# Altium schematic symbol library Cyclomotion.SCHLIB: 12 symbols
Pins are listed as number, name and electrical type; pins without a type are passive.

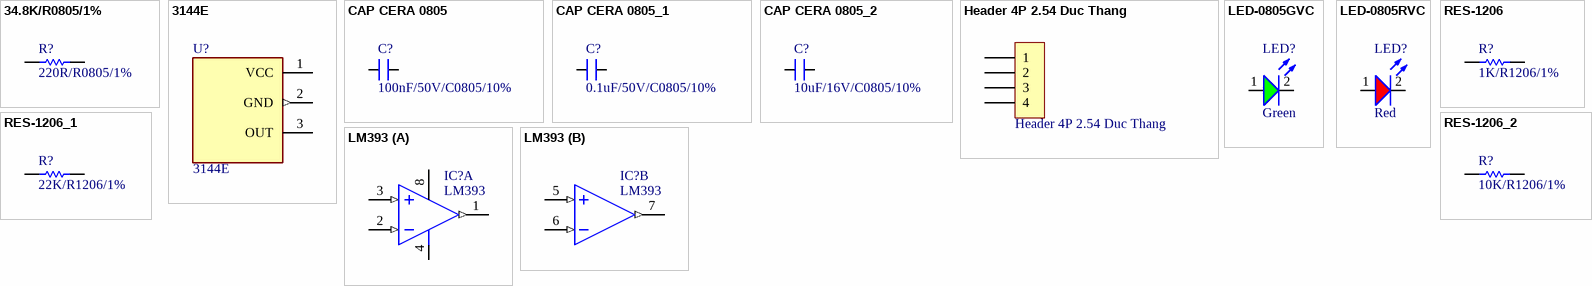
[diagram p0: symbols 34.8K/R0805/1% to RES-1206_2]

## 34.8K/R0805/1%
designator R?, comment 220R/R0805/1%
Thick Film Resistors - SMD 34.8K OHM 1% 0805; Manufacturer: Yageo; Manufacturer Part Number: RC0603FR-0734K8L; Power Rating: 100mW; Resistance: 34.8kR; Voltage Rating: 50V; Temperature Coefficient: 100ppm/°C; Supplier 1: Digi-Key; Stock 1: 82861; Pricing 1: 1=0.1, 10=0.026, 100=0.0107, 1000=0.0048, 2500=0.0042 (USD); Case/Package: 0603; Case Code (Imperial): 0603; Case Code (Metric): 1608; Min Operating Temperature: -55°C; Max Operating Temperature: 155°C; Tolerance: 1%; Packaging: Tape and Reel; Termination: SMD/SMT; Composition: Thick Film; Military Standard: Not; Voltage Rating (DC): 50V; Length: 1.6mm; Height: 0.45mm; Width: 0.8mm; Depth: 0.8mm; Lead Free: Lead Free; Supplier Part Number 1: 311-34.8KHRCT-ND
footprint Res 0805 SMD (Reflow Soldering)
pins: 1, 2

## 3144E
designator U?
Digital hall sensor switch Open Collector Hall Effect; MF: Honeywell Sensing; MP: SS541AT; SnapEDA_Link: https://www.snapeda.com/parts/SS541AT/Honeywell+Sensing+and+Control/view-part/?ref=snap; Package: SOT-89 Honeywell; Value: *; Check_prices: https://www.snapeda.com/parts/SS541AT/Honeywell+Sensing+and+Control/view-part/?ref=eda
footprint U_3144E
pins: 1 VCC (power), 2 GND (out), 3 OUT (power)

## CAP CERA 0805
designator C?, comment 100nF/50V/C0805/10%
CERAMIC CAP 0805; Value: 100pF, 2012
footprint CAP_CERA_C2012(CC0805INCH)
pins: 1, 2

## CAP CERA 0805_1
designator C?, comment 0.1uF/50V/C0805/10%
CERAMIC CAP 0805; Value: 100pF, 2012
footprint CAP_CERA_C2012(CC0805INCH) (Chip Capacitor, 2-Leads, Body 2.0x1.3mm, IPC Medium Density)
pins: 1, 2

## CAP CERA 0805_2
designator C?, comment 10uF/16V/C0805/10%
CERAMIC CAP 0805; Value: 100pF, 2012
footprint CAP_CERA_C2012(CC0805INCH) (Chip Capacitor, 2-Leads, Body 2.0x1.3mm, IPC Medium Density)
pins: 1, 2

## Header 4P 2.54 Duc Thang
designator H?
Cắm; Ten_Linh_Kien: Header 4P XH2.54-4P Đực Thẳng; Don_Vi: Con; Ma_Hang: MH001285; Chung_Loai: Cắm
footprint XH2.54M-4
pins: 1, 2, 3, 4

## LED-0805GVC
designator LED?  value Green  (hidden comment: LED-0805GVC)
LED Green 2mA 3V 0805; ComponentLink1Description: Datasheet; ComponentLink1URL: D:\Dropbox\Datasheets\Opto and Illumination\LEDs\SMD LED.pdf; Unit Price: 0.0476
footprint Led 0805G (Chip LED; Green; Body 2.0 x 1.3 mm (LxW typ))
pins: 1 A, 2 K

## LED-0805RVC
designator LED?  value Red  (hidden comment: LED-0805RVC)
LED Red 2mA 1.8V 0805; ComponentLink1Description: Datasheet; ComponentLink1URL: D:\Dropbox\Datasheets\Opto and Illumination\LEDs\SMD LED.pdf; Unit Price: 0.0476
footprint Led 0805R (Chip LED; RED ; Body 2.0 x 1.3 mm (LxW typ))
pins: 1 A, 2 K

## LM393
designator IC?
Low-Power Dual Operational Amplifier; Value: LM358
footprint U_LM393_DIP8_THT
part A pins: 1 OUT (out), 2 IN- (in), 3 IN+ (in), 4 -V, 8 +V
part B pins: 5 IN+ (in), 6 IN- (in), 7 OUT (out)

## RES-1206
designator R?, comment 1K/R1206/1%
RES SMD 10K OHM 1% 1206; Manufacturer: Yageo; Manufacturer Part Number: RC1206FR-075R1L; Resistance (Ohms): 5.1; Power (Watts): 0.25W, 1/4W; Temperature Coefficient: ±200ppm/°C; Supplier 1: Digi-Key; RoHS: RoHS Compliant; Category: Resistors; Stock 1: 96701; Pricing 1: 1=0.1, 10=0.051, 100=0.0207, 1000=0.0093, 2500=0.00807 (USD); Packaging: Cut Tape (CT); Part Status: Active; Tolerance: ±1%; Composition: Thick Film; Features: Moisture Resistant; Operating Temperature: -55°C ~ 155°C; Package / Case: 1206 (3216 Metric); Supplier Device Package: 1206; Size / Dimension: 0.122" L x 0.063" W (3.10mm x 1.60mm); Height - Seated (Max): 0.026" (0.65mm); Failure Rate: -; ComponentLink1URL: http://www.yageo.com/documents/recent/PYu-RC_Group_51_RoHS_L_7.pdf; ComponentLink1Description: http://www.yageo.com/documents/recent/PYu-RC_Group_51_RoHS_L_7.pdf; Supplier Part Number 1: 311-5.10FRCT-ND
footprint Res 1206 SMD (Reflow Soldering)
pins: 1, 2

## RES-1206_1
designator R?, comment 22K/R1206/1%
RES SMD 10K OHM 1% 1206; Manufacturer: Yageo; Manufacturer Part Number: RC1206FR-075R1L; Resistance (Ohms): 5.1; Power (Watts): 0.25W, 1/4W; Temperature Coefficient: ±200ppm/°C; Supplier 1: Digi-Key; RoHS: RoHS Compliant; Category: Resistors; Stock 1: 96701; Pricing 1: 1=0.1, 10=0.051, 100=0.0207, 1000=0.0093, 2500=0.00807 (USD); Packaging: Cut Tape (CT); Part Status: Active; Tolerance: ±1%; Composition: Thick Film; Features: Moisture Resistant; Operating Temperature: -55°C ~ 155°C; Package / Case: 1206 (3216 Metric); Supplier Device Package: 1206; Size / Dimension: 0.122" L x 0.063" W (3.10mm x 1.60mm); Height - Seated (Max): 0.026" (0.65mm); Failure Rate: -; ComponentLink1URL: http://www.yageo.com/documents/recent/PYu-RC_Group_51_RoHS_L_7.pdf; ComponentLink1Description: http://www.yageo.com/documents/recent/PYu-RC_Group_51_RoHS_L_7.pdf; Supplier Part Number 1: 311-5.10FRCT-ND
footprint Res 1206 SMD (Reflow Soldering)
pins: 1, 2

## RES-1206_2
designator R?, comment 10K/R1206/1%
RES SMD 10K OHM 1% 1206; Manufacturer: Yageo; Manufacturer Part Number: RC1206FR-075R1L; Resistance (Ohms): 5.1; Power (Watts): 0.25W, 1/4W; Temperature Coefficient: ±200ppm/°C; Supplier 1: Digi-Key; RoHS: RoHS Compliant; Category: Resistors; Stock 1: 96701; Pricing 1: 1=0.1, 10=0.051, 100=0.0207, 1000=0.0093, 2500=0.00807 (USD); Packaging: Cut Tape (CT); Part Status: Active; Tolerance: ±1%; Composition: Thick Film; Features: Moisture Resistant; Operating Temperature: -55°C ~ 155°C; Package / Case: 1206 (3216 Metric); Supplier Device Package: 1206; Size / Dimension: 0.122" L x 0.063" W (3.10mm x 1.60mm); Height - Seated (Max): 0.026" (0.65mm); Failure Rate: -; ComponentLink1URL: http://www.yageo.com/documents/recent/PYu-RC_Group_51_RoHS_L_7.pdf; ComponentLink1Description: http://www.yageo.com/documents/recent/PYu-RC_Group_51_RoHS_L_7.pdf; Supplier Part Number 1: 311-5.10FRCT-ND
footprint Res 1206 SMD (Reflow Soldering)
pins: 1, 2